# EAGLE library part ATTINY2/4/85 (library ElectricNoodleBox)
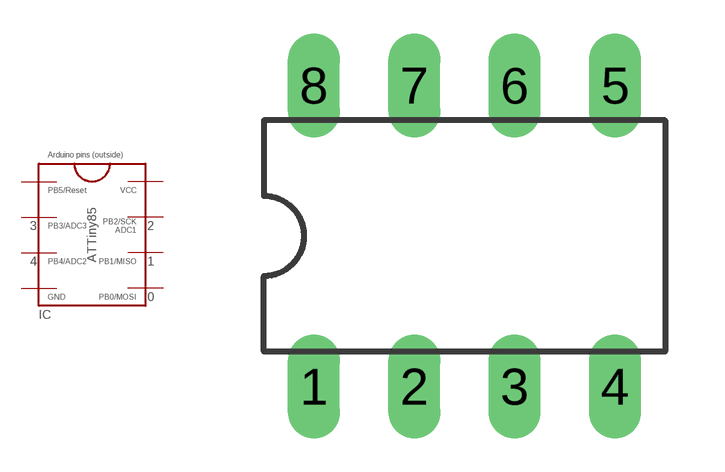
[diagram p15: symbol with the pads of DIL08; footprint DIL08]

Designator prefix IC

## ATTINY2/4/85  [DIL08]
1  RESET
2  PB3
3  PB4
4  GND  sup
5  PB0
6  PB1
7  PB2
8  VCC  sup

## Footprint DIL08 (pad centres in mm)
Dual In Line Package
drill 0.813 long: 1 -3.81,-3.81; 2 -1.27,-3.81; 3 1.27,-3.81; 4 3.81,-3.81; 5 3.81,3.81; 6 1.27,3.81; 7 -1.27,3.81; 8 -3.81,3.81